# Altium schematic symbol library CN 4POS JST XH.Schlib: 1 symbol
Pins are listed as number, name and electrical type; pins without a type are passive.

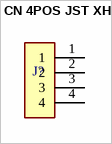
[diagram p0: symbol CN 4POS JST XH]

## CN 4POS JST XH
designator J?
Connector Header Through Hole 4 position 0.098 _2.50mm_ / B4B-XH-A(LF)(SN)
pins: 1, 2, 3, 4